# Altium footprint library EEUTA1C471SB.PcbLib: 1 footprints
Each footprint in its own frame and in the unit in brackets; x right, y up, seen from the top. Pads: shape width x height; smd on the part's side, far side on the other; paste and mask are expansions set on the pad; w line width, h text height; cw(c..) or ccw(c..) is an arc to the next point about the centre after c.
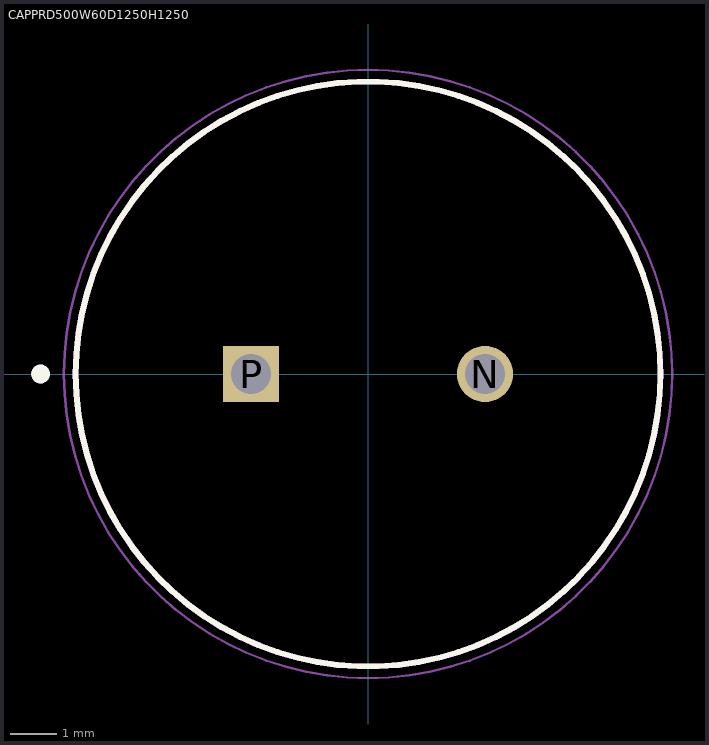
[diagram p0: the footprint, top view; thin cyan lines are the x and y axes]

## CAPPRD500W60D1250H1250 [mm]
pads (2):
  round 1.2 hole 0.85: N(2.5,0)
  rect 1.2x1.2 hole 0.85: P(-2.5,0)
Top Overlay:
  circle w0.2: c-7,0 r0.1
  circle w0.127: c0,0 r6.25
Mechanical 13:
  circle w0.2: c-7,0 r0.1
  circle w0.127: c0,0 r6.25
Mechanical 15:
  circle w0.05: c0,0 r6.5